# Altium schematic symbol library 1-406541-1.SchLib: 1 symbol
Pins are listed as number, name and electrical type; pins without a type are passive.

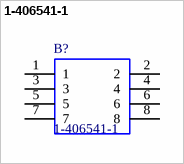
[diagram p0: symbol 1-406541-1]

## 1-406541-1
designator B?
ModJack,RightAngle,8Position,Cat5 TE Connectivity Female Cat5 RJ45 Connector, Right Angle, Through Hole Mount,; Allied_Number: 70042871; Geometry.Height: mm; Supplier_Name: RS; RS Part Number: 2508293174; Manufacturer_Name: TE Connectivity; Manufacturer_Part_Number: 1-406541-1; Other Part Number: *; Datasheet Link: http://uk.rs-online.com/web/p/products/7820823; 3D Package: *
footprint 1-406541-1_1
pins: 1, 2, 3, 4, 5, 6, 7, 8